# Altium integrated library Crystal.IntLib: 4 symbols
Pins are listed as number, name and electrical type; pins without a type are passive.

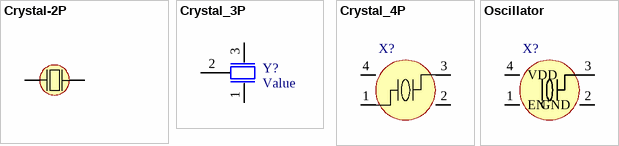
[diagram p0: symbols Crystal-2P to Oscillator]

## Crystal-2P
designator X??
Symbol: XKHEL89CGI-112YLC-32.768K
footprint CRYSTAL-SMD_2P-L2.0-W1.2
pins: 1 OSC1, 2 OSC2

## Crystal_3P
designator Y?, comment Value
村田三脚贴片晶振
footprint Crystal_3P (村田三脚贴片晶振)
pins: 1, 2, 3

## Crystal_4P
designator X?, comment XYDBPCNANF-12MHZ  (value not drawn)
四脚无源晶振; Manufacturer: TAITIEN(泰艺电子); Add into BOM: yes; Name: -; Symbol: XYDBPCNANF-12MHZ; Device: XYDBPCNANF-12MHZ; Convert to PCB: yes; LCSC Part Name: 12MHz 12pF ±10ppm -20~+70℃; Supplier Part: C521567; Manufacturer Part: XYDBPCNANF-12MHZ; Supplier Footprint: SMD2520-4P; JLCPCB Part Class: 扩展库; Datasheet: https://atta.szlcsc.com/upload/public/pdf/source/20200427/C521567_8D8DDB0F2E066B5BAD7A5878EBE465E2.pdf; Supplier: LCSC; Crystal Type: -; Value: -; Frequency Tolerance: -; Frequency Stability: -; Load Capacitance: -; Operating Temperature: -
footprint CARSTAL_4P_2520 (CARSTAL_2520)
footprint CRYSTAL-SMD_4P-L2.0-W1.6-BL-A
footprint OSC-SMD_4P-L2.0-W1.6-BL
pins: 1, 2 GND, 3, 4 GND

## Oscillator
designator X?, comment XYDBPCNANF-12MHZ  (value not drawn)
四脚有源晶振; Manufacturer: TAITIEN(泰艺电子); Add into BOM: yes; Name: -; Symbol: XYDBPCNANF-12MHZ; Device: XYDBPCNANF-12MHZ; Convert to PCB: yes; LCSC Part Name: 12MHz 12pF ±10ppm -20~+70℃; Supplier Part: C521567; Manufacturer Part: XYDBPCNANF-12MHZ; Supplier Footprint: SMD2520-4P; JLCPCB Part Class: 扩展库; Datasheet: https://atta.szlcsc.com/upload/public/pdf/source/20200427/C521567_8D8DDB0F2E066B5BAD7A5878EBE465E2.pdf; Supplier: LCSC; Crystal Type: -; Value: -; Frequency Tolerance: -; Frequency Stability: -; Load Capacitance: -; Operating Temperature: -
footprint OSC-SMD_4P-L2.0-W1.6-BL
footprint CARSTAL_4P_2520 (CARSTAL_2520)
pins: 1 EN, 2 GND, 3, 4 VDD